# Altium schematic symbol library 171826-4.SchLib: 1 symbol
Pins are listed as number, name and electrical type; pins without a type are passive.

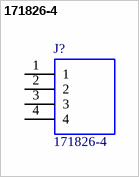
[diagram p0: symbol 171826-4]

## 171826-4
designator J?
Body Features: Connector Profile Low | Primary Product Color Natural | Configuration Features: Number of Rows 1 | Number of Positions 4 | PCB Mount Orientation Horizontal | Contact Features: PCB Contact Termination Area Plating Material Tin | Contact Base Material Brass | Contact Mating Area Plating Material Thickness .8 MICM | Mating Square Post Dimension .64 MM | Contact Current Rating (Max) 5 AMP | Contact Mating Area Length 7.5 MM | Contact Type Pin | Mating Square Post Dimension .025 INCH | Contact Mat; Manufacturer_Name: TE Connectivity; Geometry.Height: 6.7mm; Manufacturer_Part_Number: 171826-4; Mouser Part Number: 571-1718264; Mouser Price/Stock: https://www.mouser.co.uk/ProductDetail/TE-Connectivity/171826-4?qs=4hg9R9g9MDt3qYFe2l2pbA%3D%3D; Arrow Part Number: 171826-4; Arrow Price/Stock: https://www.arrow.com/en/products/171826-4/te-connectivity?region=europe; Datasheet Link: https://www.te.com/commerce/DocumentDelivery/DDEController?Action=srchrtrv&DocNm=1-1773972-5_EIS_Connectors_Brochure&DocType=Data%20Sheet&DocLang=English&PartCntxt=171826-4&DocFormat=pdf
footprint SHDRRA4W69P0X250_1X4_1000X1350X670P
pins: 1, 2, 3, 4